# Altium footprint library BLDC_Board.PcbLib: 17 footprints (part 1 of 2)
Each footprint in its own frame and in the unit in brackets; x right, y up, seen from the top. Pads: shape width x height; smd on the part's side, far side on the other; paste and mask are expansions set on the pad; w line width, h text height; cw(c..) or ccw(c..) is an arc to the next point about the centre after c.
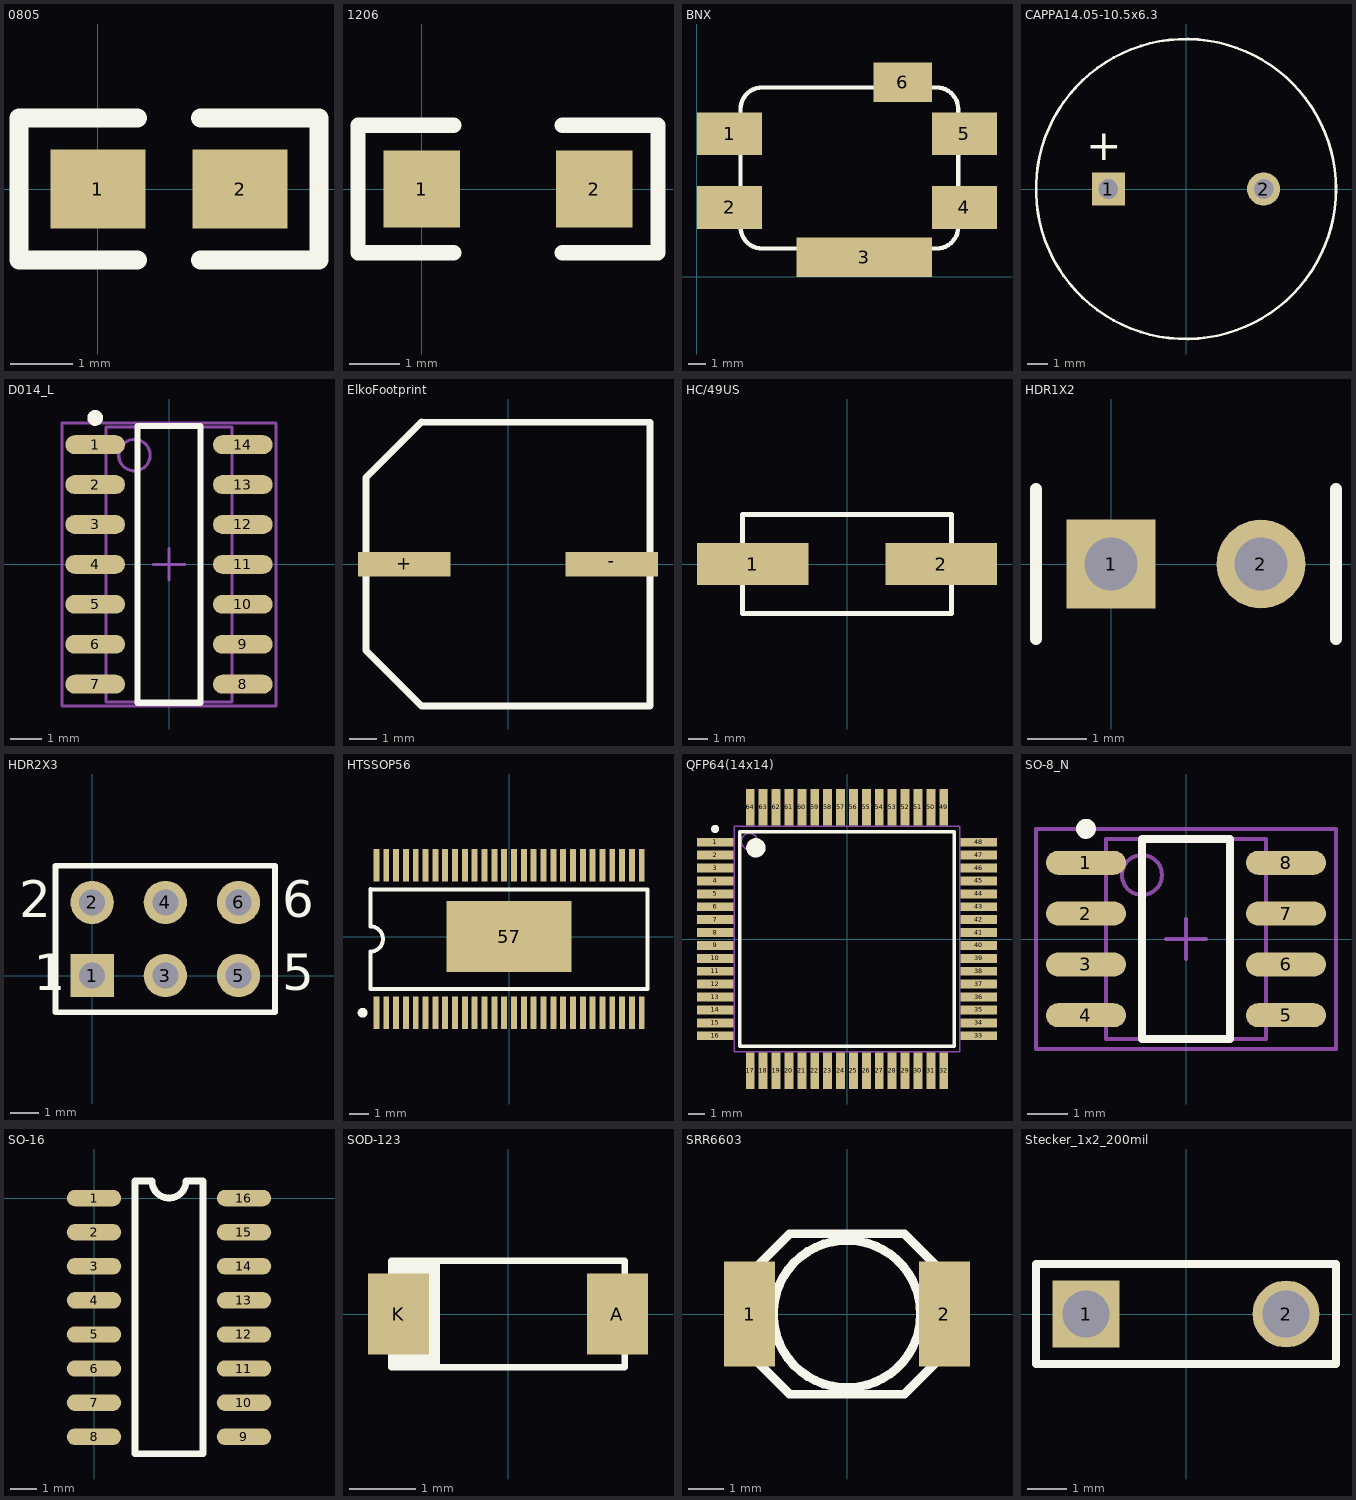
[diagram p0: the footprints below, top view; thin cyan lines are the x and y axes]

## 0805 [mil]
pads (2):
  rect 60x50 smd: 1(0,0) 2(90,0)
Top Overlay:
  lines w12: 25,-45 -50,-45 -50,45 25,45 ; 65,-45 140,-45 140,45 65,45

## 1206 [mil]
pads (2):
  rect 60x60 smd: 1(0,0) 2(135,0)
Top Overlay:
  lines w12: 25,-50 -50,-50 -50,50 25,50 ; 110,-50 185,-50 185,50 110,50

## BNX [mm]
pads (6):
  rect 3.8x2.5 smd: 1(1.9,8.35) 2(1.9,4.05) 4(15.6,4.05) 5(15.6,8.35)
  rect 7.9x2.3 smd: 3(9.75,1.15)
  rect 3.4x2.3 smd: 6(12,11.35)
Top Overlay:
  lines w0.254: 2.54,2.921 ccw(c3.81,2.921) 3.81,1.651 13.97,1.651 ccw(c13.97,2.921) 15.24,2.921 15.24,9.779 ccw(c13.97,9.779) 13.97,11.049 6.985,11.049 3.81,11.049 ccw(c3.81,9.779) 2.54,9.779 2.54,2.921

## CAPPA14.05-10.5x6.3 [mm] "Capacitor, Electrolytic, Axial; Body 10.5 x 6.3 mm (LxDia. max), Lead Dia. 0.6 mm (typ)"
height 6.3
pads (2):
  rect 1.6x1.6 hole 0.95: 1(-3.75,0)
  round 1.6 hole 0.95: 2(3.75,0)
Top Overlay:
  circle w0.127: c0,0 r7.25
  text "+" at -4.826,1.397 h1.5

## D014_L [mm] "SOIC, 14-Leads, Body 8.7x3.9mm, Pitch 1.27mm, IPC High Density"
height 1.75
pads (14):
  oval 1.9x0.6 smd: 1(-2.35,3.81) 2(-2.35,2.54) 3(-2.35,1.27) 4(-2.35,0) 5(-2.35,-1.27) 6(-2.35,-2.54) 7(-2.35,-3.81) 8(2.35,-3.81) 9(2.35,-2.54) 10(2.35,-1.27) 11(2.35,0) 12(2.35,1.27) 13(2.35,2.54) 14(2.35,3.81)
Top Overlay:
  circle w0.25: c-2.35,4.66 r0.125
  lines w0.2: -1,-4.4 1,-4.4 1,4.4 -1,4.4 -1,-4.4
Mechanical 13:
  circle w0.1: c-1.1,3.475 r0.5
  lines w0.1: -2,-4.375 2,-4.375 2,4.375 -2,4.375 -2,-4.375
Mechanical 15:
  lines w0.1: -0.5,0 0.5,0 ; 0,-0.5 0,0.5 ; -3.4,-4.5 3.4,-4.5 3.4,4.5 -3.4,4.5 -3.4,-4.5
3D body: height 1.75, standoff 0, extent -2,-4.375 2,4.375

## ElkoFootprint [mm]
pads (2):
  rect 3.4x0.9 smd: +(-3.8,0) -(3.8,0)
Top Overlay:
  lines w0.254: -5.2,-3.175 -3.175,-5.2 ; -5.2,-3.1 -5.2,3.1 ; -5.2,3.175 -5.2,3.182 -3.175,5.207 ; -3.1,-5.2 5.2,-5.2 ; -3.1,5.2 5.2,5.2 ; 5.207,-5.2 5.207,5.2

## HC/49US [mm] "ABLS HC/49US Quarz"
height 4.2
pads (2):
  rect 5.6x2.1 smd: 1(-4.75,0) 2(4.75,0)
Top Overlay:
  lines w0.25: -5.25,-2.5 -5.25,2.5 5.25,2.5 5.25,-2.5 -5.25,-2.5
Mechanical 4:
  lines w0.25: -5.25,-1.25 -5.25,-2.5 5.25,-2.5 5.25,-1.25 ; -5.25,1.25 -5.25,2.5 5.25,2.5 5.25,1.25

## HDR1X2 [mm] "Connector; Header; 2 Position"
pads (2):
  rect 1.5x1.5 hole 0.9: 1(0,0)
  round 1.5 hole 0.9: 2(2.54,0)
Top Overlay:
  lines w0.2: -1.27,-1.27 -1.27,1.27 ; 3.81,-1.27 3.81,1.27

## HDR2X3 [mm] "Connector; Header; 3x2 Position"
pads (6):
  rect 1.5x1.5 hole 0.9: 1(0,0)
  round 1.5 hole 0.9: 2(0,2.54) 3(2.54,0) 4(2.54,2.54) 5(5.08,0) 6(5.08,2.54)
Top Overlay:
  lines w0.2: 1.482,-1.27 6.35,-1.27 ; 6.35,-1.27 6.35,3.81 -1.27,3.81 -1.27,-1.27 6.35,-1.27
  text "6" at 6.604,2.032 h1.27
  text "5" at 6.604,-0.508 h1.27
  text "2" at -2.54,2.032 h1.27
  text "1" at -2.032,-0.508 h1.27

## HTSSOP56 [mm] "Shrink Small Outline; 56 Leads; Body Width 6.1 mm; Pitch 0.5 mm"
height 1.2
pads (57):
  rect 0.3x1.65 smd: 1(-6.75,-3.879) 2(-6.25,-3.879) 3(-5.75,-3.879) 4(-5.25,-3.879) 5(-4.75,-3.879) 6(-4.25,-3.879) 7(-3.75,-3.879) 8(-3.25,-3.879) 9(-2.75,-3.879) 10(-2.25,-3.879) 11(-1.75,-3.879) 12(-1.25,-3.879) 13(-0.75,-3.879) 14(-0.25,-3.879) 15(0.25,-3.879) 16(0.75,-3.879) 17(1.25,-3.879) 18(1.75,-3.879) 19(2.25,-3.879) 20(2.75,-3.879) 21(3.25,-3.879) 22(3.75,-3.879) 23(4.25,-3.879) 24(4.75,-3.879) 25(5.25,-3.879) 26(5.75,-3.879) 27(6.25,-3.879) 28(6.75,-3.879) 29(6.75,3.625) 30(6.25,3.625) 31(5.75,3.625) 32(5.25,3.625) 33(4.75,3.625) 34(4.25,3.625) 35(3.75,3.625) 36(3.25,3.625) 37(2.75,3.625) 38(2.25,3.625) 39(1.75,3.625) 40(1.25,3.625) 41(0.75,3.625) 42(0.25,3.625) 43(-0.25,3.625) 44(-0.75,3.625) 45(-1.25,3.625) 46(-1.75,3.625) 47(-2.25,3.625) 48(-2.75,3.625) 49(-3.25,3.625) 50(-3.75,3.625) 51(-4.25,3.625) 52(-4.75,3.625) 53(-5.25,3.625) 54(-5.75,3.625) 55(-6.25,3.625) 56(-6.75,3.625)
  rect 6.35x3.61 smd: 57(0,0)
Top Overlay:
  circle w0.25: c-7.45,-3.879 r0.125
  lines w0.2: -7.05,2.4 7.05,2.4 7.05,-2.642 ; -7.05,2.413 -7.05,0.508 cw(c-7.05,-0.127) -7.05,-0.762 -7.05,-2.667 7.05,-2.667

## QFP64(14x14) [mm] "QFP, 64-Leads, Body 17,5x17,5mm (max), Pitch 0,80mm, IPC Low Density"
height 2.45
pads (64):
  rect 2.25x0.55 smd: 1(-8.175,6) 2(-8.175,5.2) 3(-8.175,4.4) 4(-8.175,3.6) 5(-8.175,2.8) 6(-8.175,2) 7(-8.175,1.2) 8(-8.175,0.4) 9(-8.175,-0.4) 10(-8.175,-1.2) 11(-8.175,-2) 12(-8.175,-2.8) 13(-8.175,-3.6) 14(-8.175,-4.4) 15(-8.175,-5.2) 16(-8.175,-6) 33(8.175,-6) 34(8.175,-5.2) 35(8.175,-4.4) 36(8.175,-3.6) 37(8.175,-2.8) 38(8.175,-2) 39(8.175,-1.2) 40(8.175,-0.4) 41(8.175,0.4) 42(8.175,1.2) 43(8.175,2) 44(8.175,2.8) 45(8.175,3.6) 46(8.175,4.4) 47(8.175,5.2) 48(8.175,6)
  rect 0.55x2.25 smd: 17(-6,-8.175) 18(-5.2,-8.175) 19(-4.4,-8.175) 20(-3.6,-8.175) 21(-2.8,-8.175) 22(-2,-8.175) 23(-1.2,-8.175) 24(-0.4,-8.175) 25(0.4,-8.175) 26(1.2,-8.175) 27(2,-8.175) 28(2.8,-8.175) 29(3.6,-8.175) 30(4.4,-8.175) 31(5.2,-8.175) 32(6,-8.175) 49(6,8.175) 50(5.2,8.175) 51(4.4,8.175) 52(3.6,8.175) 53(2.8,8.175) 54(2,8.175) 55(1.2,8.175) 56(0.4,8.175) 57(-0.4,8.175) 58(-1.2,8.175) 59(-2,8.175) 60(-2.8,8.175) 61(-3.6,8.175) 62(-4.4,8.175) 63(-5.2,8.175) 64(-6,8.175)
Top Overlay:
  circle w0.6: c-5.65,5.65 r0.3
  circle w0.25: c-8.175,6.825 r0.125
  lines w0.2: -6.65,-6.65 6.65,-6.65 6.65,6.65 -6.65,6.65 -6.65,-6.65
Mechanical 13:
  circle w0.1: c-6.05,6.05 r0.5
  lines w0.1: -7,-7 7,-7 7,7 -7,7 -7,-7
3D body: height 2.45, standoff 0.25, extent -7,-7 7,7

## SO-8_N [mm] "SOIC, 8-Leads, Body 4.9x3.9mm, Pitch 1.27mm, IPC Medium Density"
height 1.75
pads (8):
  oval 2x0.6 smd: 1(-2.5,1.905) 2(-2.5,0.635) 3(-2.5,-0.635) 4(-2.5,-1.905) 5(2.5,-1.905) 6(2.5,-0.635) 7(2.5,0.635) 8(2.5,1.905)
Top Overlay:
  circle w0.25: c-2.5,2.755 r0.125
  lines w0.2: -1.1,-2.5 -1.1,2.5 1.1,2.5 1.1,-2.5 -1.1,-2.5
Mechanical 13:
  circle w0.1: c-1.1,1.6 r0.5
  lines w0.1: -2,-2.5 -2,2.5 2,2.5 2,-2.5 -2,-2.5
Mechanical 15:
  lines w0.1: -0.5,0 0.5,0 ; 0,-0.5 0,0.5 ; -3.75,-2.75 -3.75,2.75 3.75,2.75 3.75,-2.75 -3.75,-2.75
3D body: height 1.75, standoff 0, extent -2,-2.5 2,2.5

## SO-16 [mil]
pads (16):
  oval 80x24 smd: 1(0,0) 2(0,-50) 3(0,-100) 4(0,-150) 5(0,-200) 6(0,-250) 7(0,-300) 8(0,-350) 9(220,-350) 10(220,-300) 11(220,-250) 12(220,-200) 13(220,-150) 14(220,-100) 15(220,-50) 16(220,0)
Top Overlay:
  lines w10: 60,-375 160,-375 160,25 135,25 cw(c110,25) 85,25 60,25 60,-375

## SOD-123 [mil]
pads (2):
  rect 36x48 smd: A(64.5,0) K(-64.5,0)
Top Overlay:
  rectangle: -64.98,-31.5 -39.98,31.5
  lines w3.94: -65,-31.5 -65,31.5 ; -68.9,-31.5 68.9,-31.5 68.9,31.5 -68.9,31.5 -68.9,-31.5

## SRR6603 [mm]
pads (2):
  rect 1.45x3 smd: 1(-2.775,0) 2(2.775,0)
Top Overlay:
  circle w0.254: c0,0 r2.1
  lines w0.254: -3.3,-0.62 -3.3,0.62 -1.634,2.286 -1.27,2.286 1.27,2.286 1.634,2.286 3.3,0.62 3.3,-0.62 1.634,-2.286 1.524,-2.286 -1.27,-2.286 -1.634,-2.286 -3.3,-0.62

## Stecker_1x2_200mil [mm]
pads (2):
  rect 1.7x1.7 hole 1.2: 1(-2.54,0)
  round 1.7 hole 1.2: 2(2.54,0)
Top Overlay:
  lines w0.2: -3.81,-1.27 3.81,-1.27 3.81,1.27 -3.81,1.27 -3.81,-1.27